# EAGLE library part TI-TPS63051-3.3VBUCKBOOST (library ClintonLib)
TI 2.5-5.5Vin 0.5-1A 3.3Vout Buck-Boost Converter VQFN-12 (2.5x2.5mm) Package TPS63051RMWR Digikey <https://www.digikey.com/product-detail/en/texas-instruments/TPS63051RMWR/296-42650-1-ND/5455915> Datasheet <http://www.ti.com/lit/ds/symlink/tps63050.pdf>
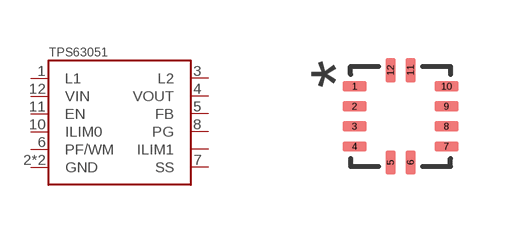
[diagram p33: symbol with the pads of TI-VQFN12-RMW0012A; footprint TI-VQFN12-RMW0012A]

Designator prefix -

## TI-TPS63051-3.3VBUCKBOOST  [TI-VQFN12-RMW0012A]
1  L1
2  GND
3  L2
4  VOUT
5  FB
6  PF/WM
7  SS
8  PG
9  GND
10  ILIM0
11  EN
12  VIN

## Footprint TI-VQFN12-RMW0012A (pad centres in mm)
smd 0.6 x 0.25: 1 -1.15,0.75; 2 -1.15,0.25; 3 -1.15,-0.25; 4 -1.15,-0.75; 7 1.15,-0.75; 8 1.15,-0.25; 9 1.15,0.25; 10 1.15,0.75
smd 0.25 x 0.6: 5 -0.25,-1.15; 6 0.25,-1.15; 11 0.25,1.15; 12 -0.25,1.15